# Altium schematic symbol library Connectors.SchLib: 7 symbols
Pins are listed as number, name and electrical type; pins without a type are passive.

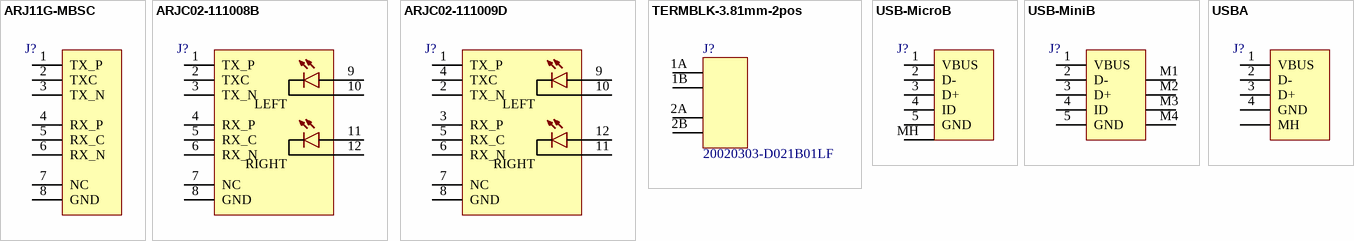
[diagram p0: symbols ARJ11G-MBSC to USBA]

## ARJ11G-MBSC
designator J?  (value not drawn)
=description
pins: 1 TX_P, 2 TXC (power), 3 TX_N (power), 4 RX_P (power), 5 RX_C (power), 6 RX_N (power), 7 NC (power), 8 GND (power)

## ARJC02-111008B
designator J?  (value not drawn)
=description
pins: 1 TX_P, 2 TXC (power), 3 TX_N (power), 4 RX_P (power), 5 RX_C (power), 6 RX_N (power), 7 NC (power), 8 GND (power), 9 A1 (power), 10 C1 (power), 11 A2 (power), 12 C2 (power)
text: LEFT; RIGHT

## ARJC02-111009D
designator J?  (value not drawn)
=description
pins: 1 TX_P, 2 TX_N (power), 3 RX_P (power), 4 TXC (power), 5 RX_C (power), 6 RX_N (power), 7 NC (power), 8 GND (power), 9 A1 (power), 10 C1 (power), 11 C2 (power), 12 A2 (power)
text: LEFT; RIGHT

## TERMBLK-3.81mm-2pos
designator J?  Manufacturer Part Number: 20020303-D021B01LF  (hidden comment: TERMBLK-3.81mm-2pos)
TERM BLK 2 POS 3.81MM PCB HORIZ; Part Number: J00170; Manufacturer: Amphenol FCI; Connector Type: Wire-to-Board; Number of Positions: 2; Current Rating: 6A; Voltage - Rated: 300V; Insertion Removal Method: Screwless - Leg Spring, Push-In Spring; Series: 09-381; Supplier 1: Digi-Key; Contact Type: -; Mounting Type: Through Hole; Supplier Part Number 1: 609-4537-ND; HelpURL: http://portal.fciconnect.com/Comergent//fci/drawing/20020303.pdf; Pitch: 3.81mm; Operating Temperature: -40°C ~ 115°C; Contact Finish: Tin; Housing Color: Green; Number of Rows: 1
footprint TERMBLK-3.81mm-2pos
pins: 1A, 1B, 2A, 2B

## USB-MicroB
designator J?  (value not drawn)
=description
pins: 1 VBUS (power), 2 D-, 3 D+, 4 ID, 5 GND (power), MH

## USB-MiniB
designator J?  (value not drawn)
=description
pins: 1 VBUS (power), 2 D-, 3 D+, 4 ID, 5 GND (power), M1 (power), M2 (power), M3 (power), M4 (power)

## USBA
designator J?  (value not drawn)
=description
pins: 1 VBUS (power), 2 D-, 3 D+, 4 GND (power), MH (power)